# Altium schematic symbol library SCH - DIODES - DIODE TVS UNI.SCHLIB: 1 symbol
Pins are listed as number, name and electrical type; pins without a type are passive.

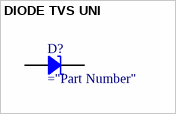
[diagram p0: symbol DIODE TVS UNI]

## DIODE TVS UNI
designator D?
Rectifier Diode
pins: 1, 2